# EAGLE library part SP6699EK-L (library Exar_By_element14_Batch_1)
27V STEP UP WHITE LED DRIVER
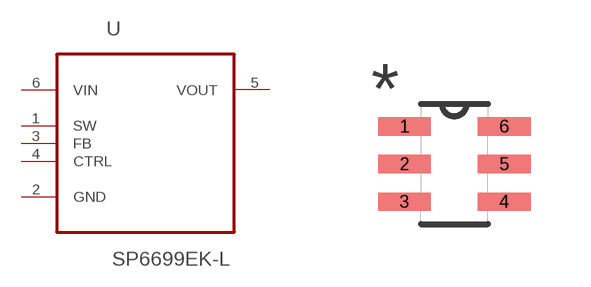
[diagram p57: symbol with the pads of SOT95P280X125-6N; footprint SOT95P280X125-6N]

Designator prefix U

## SP6699EK-L (MPN: SP6699EK-L; OC_FARNELL: 1829402; OC_NEWARK: 24R1050; PACKAGE: SOT-23-6; SUPPLIER: EXAR)  [SOT95P280X125-6N]
1  SW  pas
2  GND  pas
3  FB  in
4  CTRL  in
5  VOUT  out
6  VIN  pwr

## Footprint SOT95P280X125-6N (pad centres in mm)
smd 1.321 x 0.457: 1 -1.245,0.94; 2 -1.245,0; 3 -1.245,-0.94; 4 1.245,-0.94; 5 1.245,0; 6 1.245,0.94